# EAGLE library part PCM12SMTBR (library PCM12SMTBR)
Slide Switch SPDT Surface Mount, Right Angle Source: Datasheet <https://www.ckswitches.com/media/1424/pcm.pdf>
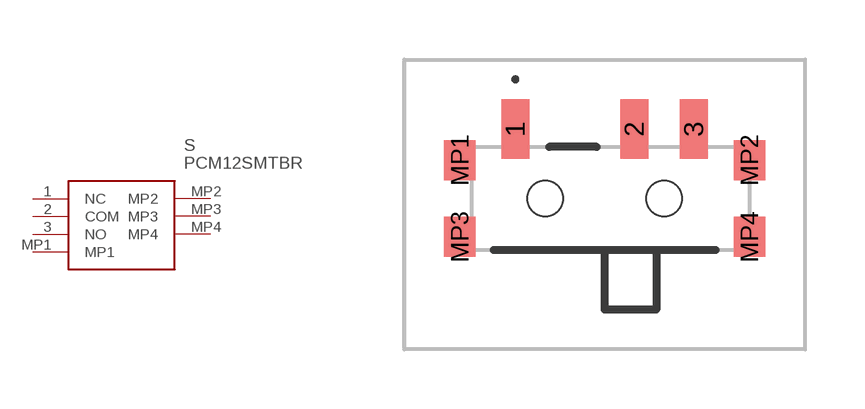
[diagram p0: symbol with the pads of PCM12SMTBR; footprint PCM12SMTBR]

Designator prefix S

## PCM12SMTBR (Description: Slide Switch SPDT Surface Mount, Right Angle; Height: 1.4mm; Manufacturer_Name: C & K COMPONENTS; Manufacturer_Part_Number: PCM12SMTBR; Mouser_Part_Number: 611-PCM12SMTBR; Mouser_Price-Stock: https://www.mouser.co.uk/ProductDetail/CK/PCM12SMTBR?qs=By6Nw2ByBD1OEOnWcdZb2g%3D%3D)  [PCM12SMTBR]
1  NC  nc
2  COM
3  NO
MP1  MP1
MP2  MP2
MP3  MP3
MP4  MP4

## Footprint PCM12SMTBR (pad centres in mm)
PCM12SMTBR-1
smd 0.7 x 1.5: 1 -2.25,1.75; 2 0.75,1.75; 3 2.25,1.75
smd 0.8 x 1: MP1 -3.65,0.965; MP2 3.65,0.965; MP3 -3.65,-0.965; MP4 3.65,-0.965
hole 0.9 at -1.5,0
hole 0.9 at 1.5,0